# Altium schematic symbol library WE-XHMI.SchLib: 178 symbols (part 2 of 4)
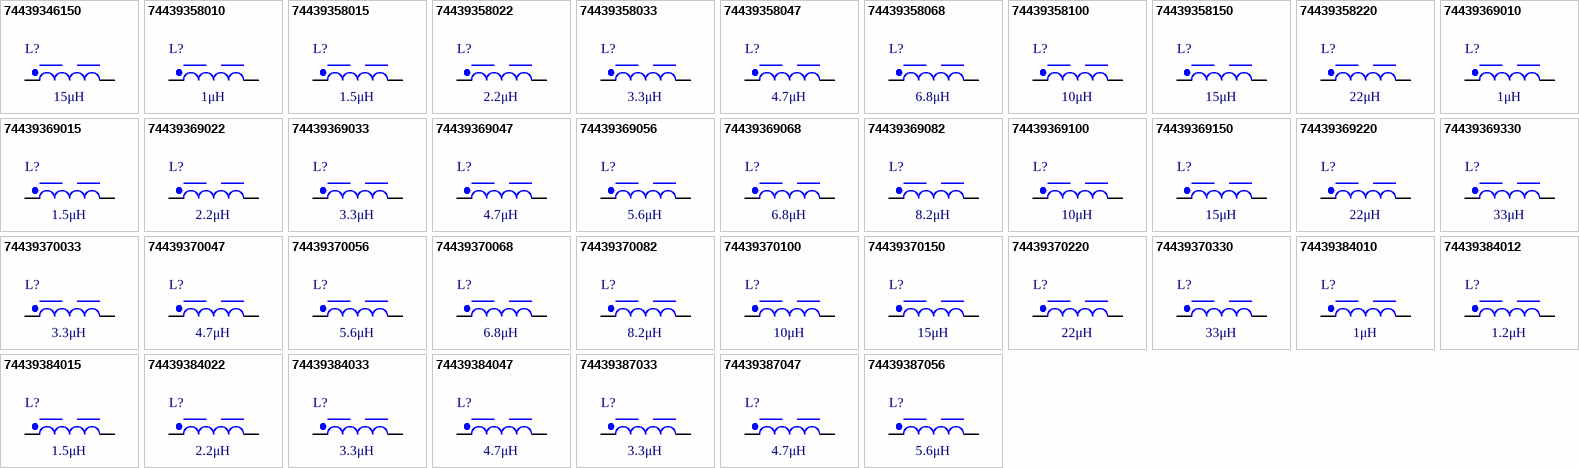
[diagram p5: symbols 74439346150 to 74439387056]

## 74439369068
designator L?, comment 6.8μH
WE-XHMI SMT Power Inductor, size 1090, 6.8μH, 16.3A, 7.88mΩ; Manufacturer Part Number: 74439369068; Manufacturer: Wurth Elektronik; Case/Size Code: 1090; DC Resistance: 7.16mΩ; Saturation Current @ 30%: 23.25A; Self Resonant Frequency: 16MHz; Category: Power Inductors; Match Code: WE-XHMI; ComponentLink1Description: Website Link; ComponentLink1URL: https://www.we-online.com/redexpert/article/74439369068?ad; ComponentLink2Description: Datasheet Link; ComponentLink2URL: https://www.we-online.com/redexpert/spec/74439369068?ad; Mount: Surface Mount; Min Operating Temperature: -40°C; Max Operating Temperature: 125°C; Packaging: Tape and Reel; Length: 11.6mm; Width: 10.5mm; Height: 8.8mm; DC Resistance Max: 7.88mΩ; Inductance: 6.8μH; Performance Rated Current: 16.3A
footprint WE-XHMI_1090
simulation model 1090_74439369068_6.8u
pins: 1, 2

## 74439369082
designator L?, comment 8.2μH
WE-XHMI SMT Power Inductor, size 1090, 8.2μH, 13.4A, 11mΩ; Manufacturer Part Number: 74439369082; Manufacturer: Wurth Elektronik; Case/Size Code: 1090; DC Resistance: 10mΩ; Saturation Current @ 30%: 20.45A; Self Resonant Frequency: 16MHz; Category: Power Inductors; Match Code: WE-XHMI; ComponentLink1Description: Website Link; ComponentLink1URL: https://www.we-online.com/redexpert/article/74439369082?ad; ComponentLink2Description: Datasheet Link; ComponentLink2URL: https://www.we-online.com/redexpert/spec/74439369082?ad; Mount: Surface Mount; Min Operating Temperature: -40°C; Max Operating Temperature: 125°C; Packaging: Tape and Reel; Length: 11.6mm; Width: 10.5mm; Height: 8.8mm; DC Resistance Max: 11mΩ; Inductance: 8.2μH; Performance Rated Current: 13.4A
footprint WE-XHMI_1090
simulation model 1090_74439369082_8.2u
pins: 1, 2

## 74439369100
designator L?, comment 10μH
WE-XHMI SMT Power Inductor, size 1090, 10μH, 12.7A, 12.1mΩ; Manufacturer Part Number: 74439369100; Manufacturer: Wurth Elektronik; Case/Size Code: 1090; DC Resistance: 11mΩ; Saturation Current @ 30%: 20.3A; Self Resonant Frequency: 14MHz; Category: Power Inductors; Match Code: WE-XHMI; ComponentLink1Description: Website Link; ComponentLink1URL: https://www.we-online.com/redexpert/article/74439369100?ad; ComponentLink2Description: Datasheet Link; ComponentLink2URL: https://www.we-online.com/redexpert/spec/74439369100?ad; Mount: Surface Mount; Min Operating Temperature: -40°C; Max Operating Temperature: 125°C; Packaging: Tape and Reel; Length: 11.6mm; Width: 10.5mm; Height: 8.8mm; DC Resistance Max: 12.1mΩ; Inductance: 10μH; Performance Rated Current: 12.7A
footprint WE-XHMI_1090
simulation model 1090_74439369100_10u
pins: 1, 2

## 74439369150
designator L?, comment 15μH
WE-XHMI SMT Power Inductor, size 1090, 15μH, 10.75A, 16.28mΩ; Manufacturer Part Number: 74439369150; Manufacturer: Wurth Elektronik; Case/Size Code: 1090; DC Resistance: 14.8mΩ; Saturation Current @ 30%: 16.95A; Self Resonant Frequency: 11MHz; Category: Power Inductors; Match Code: WE-XHMI; ComponentLink1Description: Website Link; ComponentLink1URL: https://www.we-online.com/redexpert/article/74439369150?ad; ComponentLink2Description: Datasheet Link; ComponentLink2URL: https://www.we-online.com/redexpert/spec/74439369150?ad; Mount: Surface Mount; Min Operating Temperature: -40°C; Max Operating Temperature: 125°C; Packaging: Tape and Reel; Length: 11.6mm; Width: 10.5mm; Height: 8.8mm; DC Resistance Max: 16.28mΩ; Inductance: 15μH; Performance Rated Current: 10.75A
footprint WE-XHMI_1090
simulation model 1090_74439369150_15u
pins: 1, 2

## 74439369220
designator L?, comment 22μH
WE-XHMI SMT Power Inductor, size 1090, 22μH, 9.7A, 23.65mΩ; Manufacturer Part Number: 74439369220; Manufacturer: Wurth Elektronik; Case/Size Code: 1090; DC Resistance: 21mΩ; Saturation Current @ 30%: 13.8A; Self Resonant Frequency: 8MHz; Category: Power Inductors; Match Code: WE-XHMI; ComponentLink1Description: Website Link; ComponentLink1URL: https://www.we-online.com/redexpert/article/74439369220?ad; ComponentLink2Description: Datasheet Link; ComponentLink2URL: https://www.we-online.com/redexpert/spec/74439369220?ad; Mount: Surface Mount; Min Operating Temperature: -40°C; Max Operating Temperature: 125°C; Packaging: Tape and Reel; Length: 11.6mm; Width: 10.5mm; Height: 8.8mm; DC Resistance Max: 23.65mΩ; Inductance: 22μH; Performance Rated Current: 9.7A
footprint WE-XHMI_1090
simulation model 1090_74439369220_22u
pins: 1, 2

## 74439369330
designator L?, comment 33μH
WE-XHMI SMT Power Inductor, size 1090, 33μH, 7.1A, 39.6mΩ; Manufacturer Part Number: 74439369330; Manufacturer: Wurth Elektronik; Case/Size Code: 1090; DC Resistance: 36.2mΩ; Saturation Current @ 30%: 11.7A; Self Resonant Frequency: 7MHz; Category: Power Inductors; Match Code: WE-XHMI; ComponentLink1Description: Website Link; ComponentLink1URL: https://www.we-online.com/redexpert/article/74439369330?ad; ComponentLink2Description: Datasheet Link; ComponentLink2URL: https://www.we-online.com/redexpert/spec/74439369330?ad; Mount: Surface Mount; Min Operating Temperature: -40°C; Max Operating Temperature: 125°C; Packaging: Tape and Reel; Length: 11.6mm; Width: 10.5mm; Height: 8.8mm; DC Resistance Max: 39.6mΩ; Inductance: 33μH; Performance Rated Current: 7.1A
footprint WE-XHMI_1090
simulation model 1090_74439369330_33u
pins: 1, 2

## 74439370033
designator L?, comment 3.3μH
WE-XHMI SMT Power Inductor, size 1510, 3.3μH, 33.8A, 2.97mΩ; Manufacturer Part Number: 74439370033; Manufacturer: Wurth Elektronik; Case/Size Code: 1510; DC Resistance: 2.6mΩ; Saturation Current @ 30%: 43A; Self Resonant Frequency: 16MHz; Category: Power Inductors; Match Code: WE-XHMI; ComponentLink1Description: Website Link; ComponentLink1URL: https://www.we-online.com/redexpert/article/74439370033?ad; ComponentLink2Description: Datasheet Link; ComponentLink2URL: https://www.we-online.com/redexpert/spec/74439370033?ad; Mount: Surface Mount; Min Operating Temperature: -40°C; Max Operating Temperature: 125°C; Packaging: Tape and Reel; Length: 16.4mm; Width: 15.4mm; Height: 10mm; DC Resistance Max: 2.97mΩ; Inductance: 3.3μH; Performance Rated Current: 33.8A
footprint WE-XHMI_1510
simulation model 1510_74439370033_3.3u
pins: 1, 2

## 74439370047
designator L?, comment 4.7μH
WE-XHMI SMT Power Inductor, size 1510, 4.7μH, 29.7A, 3.41mΩ; Manufacturer Part Number: 74439370047; Manufacturer: Wurth Elektronik; Case/Size Code: 1510; DC Resistance: 3.1mΩ; Saturation Current @ 30%: 47.4A; Self Resonant Frequency: 16MHz; Category: Power Inductors; Match Code: WE-XHMI; ComponentLink1Description: Website Link; ComponentLink1URL: https://www.we-online.com/redexpert/article/74439370047?ad; ComponentLink2Description: Datasheet Link; ComponentLink2URL: https://www.we-online.com/redexpert/spec/74439370047?ad; Mount: Surface Mount; Min Operating Temperature: -40°C; Max Operating Temperature: 125°C; Packaging: Tape and Reel; Length: 16.4mm; Width: 15.4mm; Height: 10mm; DC Resistance Max: 3.41mΩ; Inductance: 4.7μH; Performance Rated Current: 29.7A
footprint WE-XHMI_1510
simulation model 1510_74439370047_4.7u
pins: 1, 2

## 74439370056
designator L?, comment 5.6μH
WE-XHMI SMT Power Inductor, size 1510, 5.6μH, 29.6A, 3.96mΩ; Manufacturer Part Number: 74439370056; Manufacturer: Wurth Elektronik; Case/Size Code: 1510; DC Resistance: 3.5mΩ; Saturation Current @ 30%: 40.1A; Self Resonant Frequency: 14MHz; Category: Power Inductors; Match Code: WE-XHMI; ComponentLink1Description: Website Link; ComponentLink1URL: https://www.we-online.com/redexpert/article/74439370056?ad; ComponentLink2Description: Datasheet Link; ComponentLink2URL: https://www.we-online.com/redexpert/spec/74439370056?ad; Mount: Surface Mount; Min Operating Temperature: -40°C; Max Operating Temperature: 125°C; Packaging: Tape and Reel; Length: 16.4mm; Width: 15.4mm; Height: 10mm; DC Resistance Max: 3.96mΩ; Inductance: 5.6μH; Performance Rated Current: 29.6A
footprint WE-XHMI_1510
simulation model 1510_74439370056_5.6u
pins: 1, 2

## 74439370068
designator L?, comment 6.8μH
WE-XHMI SMT Power Inductor, size 1510, 6.8μH, 25.3A, 4.51mΩ; Manufacturer Part Number: 74439370068; Manufacturer: Wurth Elektronik; Case/Size Code: 1510; DC Resistance: 4.1mΩ; Saturation Current @ 30%: 40.05A; Self Resonant Frequency: 14MHz; Category: Power Inductors; Match Code: WE-XHMI; ComponentLink1Description: Website Link; ComponentLink1URL: https://www.we-online.com/redexpert/article/74439370068?ad; ComponentLink2Description: Datasheet Link; ComponentLink2URL: https://www.we-online.com/redexpert/spec/74439370068?ad; Mount: Surface Mount; Min Operating Temperature: -40°C; Max Operating Temperature: 125°C; Packaging: Tape and Reel; Length: 16.4mm; Width: 15.4mm; Height: 10mm; DC Resistance Max: 4.51mΩ; Inductance: 6.8μH; Performance Rated Current: 25.3A
footprint WE-XHMI_1510
simulation model 1510_74439370068_6.8u
pins: 1, 2

## 74439370082
designator L?, comment 8.2μH
WE-XHMI SMT Power Inductor, size 1510, 8.2μH, 21.35A, 6.05mΩ; Manufacturer Part Number: 74439370082; Manufacturer: Wurth Elektronik; Case/Size Code: 1510; DC Resistance: 5.5mΩ; Saturation Current @ 30%: 36.4A; Self Resonant Frequency: 11MHz; Category: Power Inductors; Match Code: WE-XHMI; ComponentLink1Description: Website Link; ComponentLink1URL: https://www.we-online.com/redexpert/article/74439370082?ad; ComponentLink2Description: Datasheet Link; ComponentLink2URL: https://www.we-online.com/redexpert/spec/74439370082?ad; Mount: Surface Mount; Min Operating Temperature: -40°C; Max Operating Temperature: 125°C; Packaging: Tape and Reel; Length: 16.4mm; Width: 15.4mm; Height: 10mm; DC Resistance Max: 6.05mΩ; Inductance: 8.2μH; Performance Rated Current: 21.35A
footprint WE-XHMI_1510
simulation model 1510_74439370082_8.2u
pins: 1, 2

## 74439370100
designator L?, comment 10μH
WE-XHMI SMT Power Inductor, size 1510, 10μH, 19.6A, 7.04mΩ; Manufacturer Part Number: 74439370100; Manufacturer: Wurth Elektronik; Case/Size Code: 1510; DC Resistance: 6.4mΩ; Saturation Current @ 30%: 31.2A; Self Resonant Frequency: 9MHz; Category: Power Inductors; Match Code: WE-XHMI; ComponentLink1Description: Website Link; ComponentLink1URL: https://www.we-online.com/redexpert/article/74439370100?ad; ComponentLink2Description: Datasheet Link; ComponentLink2URL: https://www.we-online.com/redexpert/spec/74439370100?ad; Mount: Surface Mount; Min Operating Temperature: -40°C; Max Operating Temperature: 125°C; Packaging: Tape and Reel; Length: 16.4mm; Width: 15.4mm; Height: 10mm; DC Resistance Max: 7.04mΩ; Inductance: 10μH; Performance Rated Current: 19.6A
footprint WE-XHMI_1510
simulation model 1510_74439370100_10u
pins: 1, 2

## 74439370150
designator L?, comment 15μH
WE-XHMI SMT Power Inductor, size 1510, 15μH, 14.7A, 11.55mΩ; Manufacturer Part Number: 74439370150; Manufacturer: Wurth Elektronik; Case/Size Code: 1510; DC Resistance: 10.5mΩ; Saturation Current @ 30%: 26.1A; Self Resonant Frequency: 8MHz; Category: Power Inductors; Match Code: WE-XHMI; ComponentLink1Description: Website Link; ComponentLink1URL: https://www.we-online.com/redexpert/article/74439370150?ad; ComponentLink2Description: Datasheet Link; ComponentLink2URL: https://www.we-online.com/redexpert/spec/74439370150?ad; Mount: Surface Mount; Min Operating Temperature: -40°C; Max Operating Temperature: 125°C; Packaging: Tape and Reel; Length: 16.4mm; Width: 15.4mm; Height: 10mm; DC Resistance Max: 11.55mΩ; Inductance: 15μH; Performance Rated Current: 14.7A
footprint WE-XHMI_1510
simulation model 1510_74439370150_15u
pins: 1, 2

## 74439370220
designator L?, comment 22μH
WE-XHMI SMT Power Inductor, size 1510, 22μH, 13.35A, 13.75mΩ; Manufacturer Part Number: 74439370220; Manufacturer: Wurth Elektronik; Case/Size Code: 1510; DC Resistance: 12.5mΩ; Saturation Current @ 30%: 22.35A; Self Resonant Frequency: 7MHz; Category: Power Inductors; Match Code: WE-XHMI; ComponentLink1Description: Website Link; ComponentLink1URL: https://www.we-online.com/redexpert/article/74439370220?ad; ComponentLink2Description: Datasheet Link; ComponentLink2URL: https://www.we-online.com/redexpert/spec/74439370220?ad; Mount: Surface Mount; Min Operating Temperature: -40°C; Max Operating Temperature: 125°C; Packaging: Tape and Reel; Length: 16.4mm; Width: 15.4mm; Height: 10mm; DC Resistance Max: 13.75mΩ; Inductance: 22μH; Performance Rated Current: 13.35A
footprint WE-XHMI_1510
simulation model 1510_74439370220_22u
pins: 1, 2

## 74439370330
designator L?, comment 33μH
WE-XHMI SMT Power Inductor, size 1510, 33μH, 10.8A, 19.8mΩ; Manufacturer Part Number: 74439370330; Manufacturer: Wurth Elektronik; Case/Size Code: 1510; DC Resistance: 18mΩ; Saturation Current @ 30%: 18.15A; Self Resonant Frequency: 5MHz; Category: Power Inductors; Match Code: WE-XHMI; ComponentLink1Description: Website Link; ComponentLink1URL: https://www.we-online.com/redexpert/article/74439370330?ad; ComponentLink2Description: Datasheet Link; ComponentLink2URL: https://www.we-online.com/redexpert/spec/74439370330?ad; Mount: Surface Mount; Min Operating Temperature: -40°C; Max Operating Temperature: 125°C; Packaging: Tape and Reel; Length: 16.4mm; Width: 15.4mm; Height: 10mm; DC Resistance Max: 19.8mΩ; Inductance: 33μH; Performance Rated Current: 10.8A
footprint WE-XHMI_1510
simulation model 1510_74439370330_33u
pins: 1, 2

## 74439384010
designator L?, comment 1μH
WE-XHMI SMT Power Inductor, size 7030, 1μH, 23.7A, 5.16mΩ; Manufacturer Part Number: 74439384010; Manufacturer: Wurth Elektronik; Case/Size Code: 7030; DC Resistance: 3.9mΩ; Saturation Current @ 30%: 25A; Self Resonant Frequency: 45MHz; Category: Power Inductors; Match Code: WE-XHMI; ComponentLink1Description: Website Link; ComponentLink1URL: https://www.we-online.com/redexpert/article/74439384010?ad; ComponentLink2Description: Datasheet Link; ComponentLink2URL: https://www.we-online.com/redexpert/spec/74439384010?ad; Mount: Surface Mount; Min Operating Temperature: -40°C; Max Operating Temperature: 125°C; Packaging: Tape and Reel; Length: 7.9mm; Width: 7.6mm; Height: 3mm; DC Resistance Max: 5.16mΩ; Inductance: 1μH; Performance Rated Current: 23.7A
footprint WE-XHMI_7030
simulation model 7030_74439384010_1u
pins: 1, 2

## 74439384012
designator L?, comment 1.2μH
WE-XHMI SMT Power Inductor, size 7030, 1.2μH, 23.6A, 5.4mΩ; Manufacturer Part Number: 74439384012; Manufacturer: Wurth Elektronik; Case/Size Code: 7030; DC Resistance: 4.2mΩ; Saturation Current @ 30%: 21.9A; Self Resonant Frequency: 38MHz; Category: Power Inductors; Match Code: WE-XHMI; ComponentLink1Description: Website Link; ComponentLink1URL: https://www.we-online.com/redexpert/article/74439384012?ad; ComponentLink2Description: Datasheet Link; ComponentLink2URL: https://www.we-online.com/redexpert/spec/74439384012?ad; Mount: Surface Mount; Min Operating Temperature: -40°C; Max Operating Temperature: 125°C; Packaging: Tape and Reel; Length: 7.9mm; Width: 7.6mm; Height: 3mm; DC Resistance Max: 5.4mΩ; Inductance: 1.2μH; Performance Rated Current: 23.6A
footprint WE-XHMI_7030
simulation model 7030_74439384012_1.2u
pins: 1, 2

## 74439384015
designator L?, comment 1.5μH
WE-XHMI SMT Power Inductor, size 7030, 1.5μH, 20.1A, 6.6mΩ; Manufacturer Part Number: 74439384015; Manufacturer: Wurth Elektronik; Case/Size Code: 7030; DC Resistance: 5.1mΩ; Saturation Current @ 30%: 18.8A; Self Resonant Frequency: 36MHz; Category: Power Inductors; Match Code: WE-XHMI; ComponentLink1Description: Website Link; ComponentLink1URL: https://www.we-online.com/redexpert/article/74439384015?ad; ComponentLink2Description: Datasheet Link; ComponentLink2URL: https://www.we-online.com/redexpert/spec/74439384015?ad; Mount: Surface Mount; Min Operating Temperature: -40°C; Max Operating Temperature: 125°C; Packaging: Tape and Reel; Length: 7.9mm; Width: 7.6mm; Height: 3mm; DC Resistance Max: 6.6mΩ; Inductance: 1.5μH; Performance Rated Current: 20.1A
footprint WE-XHMI_7030
simulation model 7030_74439384015_1.5u
pins: 1, 2

## 74439384022
designator L?, comment 2.2μH
WE-XHMI SMT Power Inductor, size 7030, 2.2μH, 16.7A, 10.56mΩ; Manufacturer Part Number: 74439384022; Manufacturer: Wurth Elektronik; Case/Size Code: 7030; DC Resistance: 7.9mΩ; Saturation Current @ 30%: 13.8A; Self Resonant Frequency: 27MHz; Category: Power Inductors; Match Code: WE-XHMI; ComponentLink1Description: Website Link; ComponentLink1URL: https://www.we-online.com/redexpert/article/74439384022?ad; ComponentLink2Description: Datasheet Link; ComponentLink2URL: https://www.we-online.com/redexpert/spec/74439384022?ad; Mount: Surface Mount; Min Operating Temperature: -40°C; Max Operating Temperature: 125°C; Packaging: Tape and Reel; Length: 7.9mm; Width: 7.6mm; Height: 3mm; DC Resistance Max: 10.56mΩ; Inductance: 2.2μH; Performance Rated Current: 16.7A
footprint WE-XHMI_7030
simulation model 7030_74439384022_2.2u
pins: 1, 2

## 74439384033
designator L?, comment 3.3μH
WE-XHMI SMT Power Inductor, size 7030, 3.3μH, 11.4A, 19.08mΩ; Manufacturer Part Number: 74439384033; Manufacturer: Wurth Elektronik; Case/Size Code: 7030; DC Resistance: 14.4mΩ; Saturation Current @ 30%: 13.6A; Self Resonant Frequency: 25MHz; Category: Power Inductors; Match Code: WE-XHMI; ComponentLink1Description: Website Link; ComponentLink1URL: https://www.we-online.com/redexpert/article/74439384033?ad; ComponentLink2Description: Datasheet Link; ComponentLink2URL: https://www.we-online.com/redexpert/spec/74439384033?ad; Mount: Surface Mount; Min Operating Temperature: -40°C; Max Operating Temperature: 125°C; Packaging: Tape and Reel; Length: 7.9mm; Width: 7.6mm; Height: 3mm; DC Resistance Max: 19.08mΩ; Inductance: 3.3μH; Performance Rated Current: 11.4A
footprint WE-XHMI_7030
simulation model 7030_74439384033_3.3u
pins: 1, 2

## 74439384047
designator L?, comment 4.7μH
WE-XHMI SMT Power Inductor, size 7030, 4.7μH, 9.5A, 24.96mΩ; Manufacturer Part Number: 74439384047; Manufacturer: Wurth Elektronik; Case/Size Code: 7030; DC Resistance: 19.8mΩ; Saturation Current @ 30%: 11A; Self Resonant Frequency: 18MHz; Category: Power Inductors; Match Code: WE-XHMI; ComponentLink1Description: Website Link; ComponentLink1URL: https://www.we-online.com/redexpert/article/74439384047?ad; ComponentLink2Description: Datasheet Link; ComponentLink2URL: https://www.we-online.com/redexpert/spec/74439384047?ad; Mount: Surface Mount; Min Operating Temperature: -40°C; Max Operating Temperature: 125°C; Packaging: Tape and Reel; Length: 7.9mm; Width: 7.6mm; Height: 3mm; DC Resistance Max: 24.96mΩ; Inductance: 4.7μH; Performance Rated Current: 9.5A
footprint WE-XHMI_7030
simulation model 7030_74439384047_4.7u
pins: 1, 2

## 74439387033
designator L?, comment 3.3μH
WE-XHMI SMT Power Inductor, size 7070, 3.3μH, 18.2A, 8.76mΩ; Manufacturer Part Number: 74439387033; Manufacturer: Wurth Elektronik; Case/Size Code: 7070; DC Resistance: 6.4mΩ; Saturation Current @ 30%: 18.6A; Self Resonant Frequency: 23MHz; Category: Power Inductors; Match Code: WE-XHMI; ComponentLink1Description: Website Link; ComponentLink1URL: https://www.we-online.com/redexpert/article/74439387033?ad; ComponentLink2Description: Datasheet Link; ComponentLink2URL: https://www.we-online.com/redexpert/spec/74439387033?ad; Mount: Surface Mount; Min Operating Temperature: -40°C; Max Operating Temperature: 125°C; Packaging: Tape and Reel; Length: 7.9mm; Width: 7.6mm; Height: 7.1mm; DC Resistance Max: 8.76mΩ; Inductance: 3.3μH; Performance Rated Current: 18.2A
footprint WE-XHMI_7070
simulation model 7070_74439387033_3.3u
pins: 1, 2

## 74439387047
designator L?, comment 4.7μH
WE-XHMI SMT Power Inductor, size 7070, 4.7μH, 15A, 11.52mΩ; Manufacturer Part Number: 74439387047; Manufacturer: Wurth Elektronik; Case/Size Code: 7070; DC Resistance: 9.2mΩ; Saturation Current @ 30%: 16A; Self Resonant Frequency: 20MHz; Category: Power Inductors; Match Code: WE-XHMI; ComponentLink1Description: Website Link; ComponentLink1URL: https://www.we-online.com/redexpert/article/74439387047?ad; ComponentLink2Description: Datasheet Link; ComponentLink2URL: https://www.we-online.com/redexpert/spec/74439387047?ad; Mount: Surface Mount; Min Operating Temperature: -40°C; Max Operating Temperature: 125°C; Packaging: Tape and Reel; Length: 7.9mm; Width: 7.6mm; Height: 7.1mm; DC Resistance Max: 11.52mΩ; Inductance: 4.7μH; Performance Rated Current: 15A
footprint WE-XHMI_7070
simulation model 7070_74439387047_4.7u
pins: 1, 2

## 74439387056
designator L?, comment 5.6μH
WE-XHMI SMT Power Inductor, size 7070, 5.6μH, 14.8A, 13.32mΩ; Manufacturer Part Number: 74439387056; Manufacturer: Wurth Elektronik; Case/Size Code: 7070; DC Resistance: 12.4mΩ; Saturation Current @ 30%: 13.9A; Self Resonant Frequency: 15MHz; Category: Power Inductors; Match Code: WE-XHMI; ComponentLink1Description: Website Link; ComponentLink1URL: https://www.we-online.com/redexpert/article/74439387056?ad; ComponentLink2Description: Datasheet Link; ComponentLink2URL: https://www.we-online.com/redexpert/spec/74439387056?ad; Mount: Surface Mount; Min Operating Temperature: -40°C; Max Operating Temperature: 125°C; Packaging: Tape and Reel; Length: 7.9mm; Width: 7.6mm; Height: 7.1mm; DC Resistance Max: 13.32mΩ; Inductance: 5.6μH; Performance Rated Current: 14.8A
footprint WE-XHMI_7070
simulation model 7070_74439387056_5.6u
pins: 1, 2

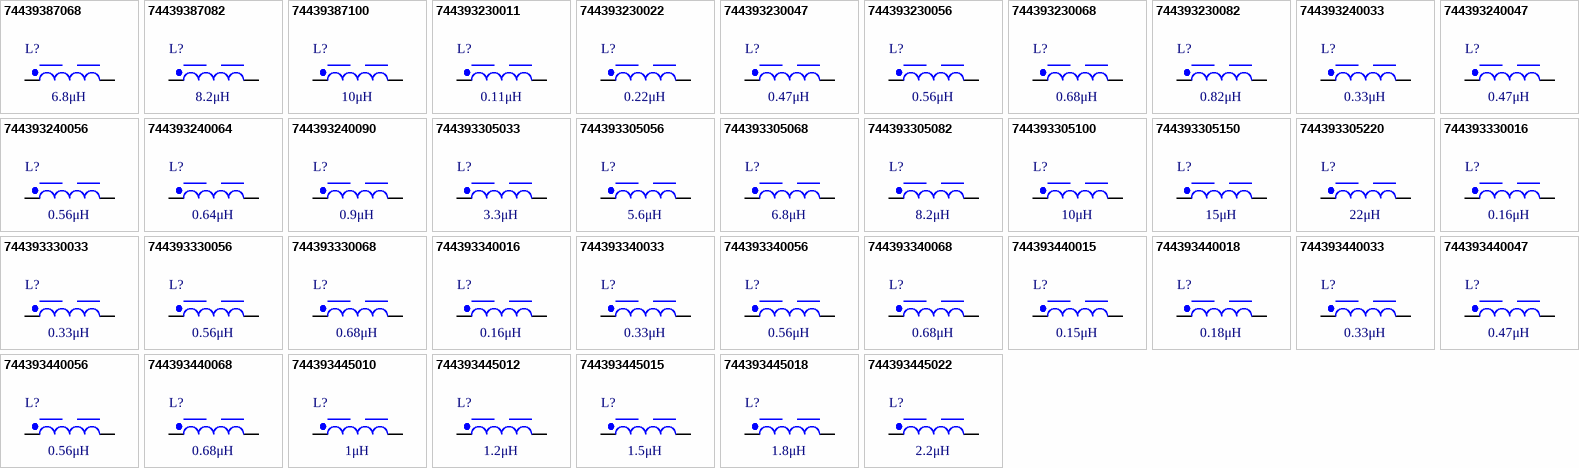
[diagram p2: symbols 74439387068 to 744393445022]

## 74439387068
designator L?, comment 6.8μH
WE-XHMI SMT Power Inductor, size 7070, 6.8μH, 12.5A, 16.8mΩ; Manufacturer Part Number: 74439387068; Manufacturer: Wurth Elektronik; Case/Size Code: 7070; DC Resistance: 12.4mΩ; Saturation Current @ 30%: 13.7A; Self Resonant Frequency: 15MHz; Category: Power Inductors; Match Code: WE-XHMI; ComponentLink1Description: Website Link; ComponentLink1URL: https://www.we-online.com/redexpert/article/74439387068?ad; ComponentLink2Description: Datasheet Link; ComponentLink2URL: https://www.we-online.com/redexpert/spec/74439387068?ad; Mount: Surface Mount; Min Operating Temperature: -40°C; Max Operating Temperature: 125°C; Packaging: Tape and Reel; Length: 7.9mm; Width: 7.6mm; Height: 7.1mm; DC Resistance Max: 16.8mΩ; Inductance: 6.8μH; Performance Rated Current: 12.5A
footprint WE-XHMI_7070
simulation model 7070_74439387068_6.8u
pins: 1, 2

## 74439387082
designator L?, comment 8.2μH
WE-XHMI SMT Power Inductor, size 7070, 8.2μH, 11.2A, 19.5mΩ; Manufacturer Part Number: 74439387082; Manufacturer: Wurth Elektronik; Case/Size Code: 7070; DC Resistance: 14.5mΩ; Saturation Current @ 30%: 12.7A; Self Resonant Frequency: 14MHz; Category: Power Inductors; Match Code: WE-XHMI; ComponentLink1Description: Website Link; ComponentLink1URL: https://www.we-online.com/redexpert/article/74439387082?ad; ComponentLink2Description: Datasheet Link; ComponentLink2URL: https://www.we-online.com/redexpert/spec/74439387082?ad; Mount: Surface Mount; Min Operating Temperature: -40°C; Max Operating Temperature: 125°C; Packaging: Tape and Reel; Length: 7.9mm; Width: 7.6mm; Height: 7.1mm; DC Resistance Max: 19.5mΩ; Inductance: 8.2μH; Performance Rated Current: 11.2A
footprint WE-XHMI_7070
simulation model 7070_74439387082_8.2u
pins: 1, 2

## 74439387100
designator L?, comment 10μH
WE-XHMI SMT Power Inductor, size 7070, 10μH, 9.6A, 22.92mΩ; Manufacturer Part Number: 74439387100; Manufacturer: Wurth Elektronik; Case/Size Code: 7070; DC Resistance: 19mΩ; Saturation Current @ 30%: 12.6A; Self Resonant Frequency: 13MHz; Category: Power Inductors; Match Code: WE-XHMI; ComponentLink1Description: Website Link; ComponentLink1URL: https://www.we-online.com/redexpert/article/74439387100?ad; ComponentLink2Description: Datasheet Link; ComponentLink2URL: https://www.we-online.com/redexpert/spec/74439387100?ad; Mount: Surface Mount; Min Operating Temperature: -40°C; Max Operating Temperature: 125°C; Packaging: Tape and Reel; Length: 7.9mm; Width: 7.6mm; Height: 7.1mm; DC Resistance Max: 22.92mΩ; Inductance: 10μH; Performance Rated Current: 9.6A
footprint WE-XHMI_7070
simulation model 7070_74439387100_10u
pins: 1, 2

## 744393230011
designator L?, comment 0.11μH
WE-XHMI SMT Power Inductor, size 4020, 0.11μH, 23.7A, 2.44mΩ; Manufacturer Part Number: 744393230011; Manufacturer: Wurth Elektronik; Case/Size Code: 4020; DC Resistance: 2mΩ; Saturation Current @ 30%: 41.5A; Self Resonant Frequency: 295MHz; Category: Power Inductors; Match Code: WE-XHMI; ComponentLink1Description: Website Link; ComponentLink1URL: https://www.we-online.com/redexpert/article/744393230011?ad; ComponentLink2Description: Datasheet Link; ComponentLink2URL: https://www.we-online.com/redexpert/spec/744393230011?ad; Mount: Surface Mount; Min Operating Temperature: -40°C; Max Operating Temperature: 125°C; Packaging: Tape and Reel; Length: 4.3mm; Width: 4.3mm; Height: 2mm; DC Resistance Max: 2.44mΩ; Inductance: 0.11μH; Performance Rated Current: 23.7A
footprint WE-XHMI_4020
simulation model 4020_744393230011_0.11u
pins: 1, 2

## 744393230022
designator L?, comment 0.22μH
WE-XHMI SMT Power Inductor, size 4020, 0.22μH, 20A, 3.78mΩ; Manufacturer Part Number: 744393230022; Manufacturer: Wurth Elektronik; Case/Size Code: 4020; DC Resistance: 3.05mΩ; Saturation Current @ 30%: 24.2A; Self Resonant Frequency: 160MHz; Category: Power Inductors; Match Code: WE-XHMI; ComponentLink1Description: Website Link; ComponentLink1URL: https://www.we-online.com/redexpert/article/744393230022?ad; ComponentLink2Description: Datasheet Link; ComponentLink2URL: https://www.we-online.com/redexpert/spec/744393230022?ad; Mount: Surface Mount; Min Operating Temperature: -40°C; Max Operating Temperature: 125°C; Packaging: Tape and Reel; Length: 4.3mm; Width: 4.3mm; Height: 2mm; DC Resistance Max: 3.78mΩ; Inductance: 0.22μH; Performance Rated Current: 20A
footprint WE-XHMI_4020
simulation model 4020_744393230022_0.22u
pins: 1, 2

## 744393230047
designator L?, comment 0.47μH
WE-XHMI SMT Power Inductor, size 4020, 0.47μH, 14.5A, 6.69mΩ; Manufacturer Part Number: 744393230047; Manufacturer: Wurth Elektronik; Case/Size Code: 4020; DC Resistance: 5.25mΩ; Saturation Current @ 30%: 12.8A; Self Resonant Frequency: 95MHz; Category: Power Inductors; Match Code: WE-XHMI; ComponentLink1Description: Website Link; ComponentLink1URL: https://www.we-online.com/redexpert/article/744393230047?ad; ComponentLink2Description: Datasheet Link; ComponentLink2URL: https://www.we-online.com/redexpert/spec/744393230047?ad; Mount: Surface Mount; Min Operating Temperature: -40°C; Max Operating Temperature: 125°C; Packaging: Tape and Reel; Length: 4.3mm; Width: 4.3mm; Height: 2mm; DC Resistance Max: 6.69mΩ; Inductance: 0.47μH; Performance Rated Current: 14.5A
footprint WE-XHMI_4020
simulation model 4020_744393230047_0.47u
pins: 1, 2

## 744393230056
designator L?, comment 0.56μH
WE-XHMI SMT Power Inductor, size 4020, 0.56μH, 12.7A, 8mΩ; Manufacturer Part Number: 744393230056; Manufacturer: Wurth Elektronik; Case/Size Code: 4020; DC Resistance: 6.3mΩ; Saturation Current @ 30%: 12A; Self Resonant Frequency: 85MHz; Category: Power Inductors; Match Code: WE-XHMI; ComponentLink1Description: Website Link; ComponentLink1URL: https://www.we-online.com/redexpert/article/744393230056?ad; ComponentLink2Description: Datasheet Link; ComponentLink2URL: https://www.we-online.com/redexpert/spec/744393230056?ad; Mount: Surface Mount; Min Operating Temperature: -40°C; Max Operating Temperature: 125°C; Packaging: Tape and Reel; Length: 4.3mm; Width: 4.3mm; Height: 2mm; DC Resistance Max: 8mΩ; Inductance: 0.56μH; Performance Rated Current: 12.7A
footprint WE-XHMI_4020
simulation model 4020_744393230056_0.56u
pins: 1, 2

## 744393230068
designator L?, comment 0.68μH
WE-XHMI SMT Power Inductor, size 4020, 0.68μH, 12.6A, 9.63mΩ; Manufacturer Part Number: 744393230068; Manufacturer: Wurth Elektronik; Case/Size Code: 4020; DC Resistance: 6.6mΩ; Saturation Current @ 30%: 11.8A; Self Resonant Frequency: 80MHz; Category: Power Inductors; Match Code: WE-XHMI; ComponentLink1Description: Website Link; ComponentLink1URL: https://www.we-online.com/redexpert/article/744393230068?ad; ComponentLink2Description: Datasheet Link; ComponentLink2URL: https://www.we-online.com/redexpert/spec/744393230068?ad; Mount: Surface Mount; Min Operating Temperature: -40°C; Max Operating Temperature: 125°C; Packaging: Tape and Reel; Length: 4.3mm; Width: 4.3mm; Height: 2mm; DC Resistance Max: 9.63mΩ; Inductance: 0.68μH; Performance Rated Current: 12.6A
footprint WE-XHMI_4020
simulation model 4020_744393230068_0.68u
pins: 1, 2

## 744393230082
designator L?, comment 0.82μH
WE-XHMI SMT Power Inductor, size 4020, 0.82μH, 10.8A, 11mΩ; Manufacturer Part Number: 744393230082; Manufacturer: Wurth Elektronik; Case/Size Code: 4020; DC Resistance: 9.3mΩ; Saturation Current @ 30%: 11.6A; Self Resonant Frequency: 70MHz; Category: Power Inductors; Match Code: WE-XHMI; ComponentLink1Description: Website Link; ComponentLink1URL: https://www.we-online.com/redexpert/article/744393230082?ad; ComponentLink2Description: Datasheet Link; ComponentLink2URL: https://www.we-online.com/redexpert/spec/744393230082?ad; Mount: Surface Mount; Min Operating Temperature: -40°C; Max Operating Temperature: 125°C; Packaging: Tape and Reel; Length: 4.3mm; Width: 4.3mm; Height: 2mm; DC Resistance Max: 11mΩ; Inductance: 0.82μH; Performance Rated Current: 10.8A
footprint WE-XHMI_4020
simulation model 4020_744393230082_0.82u
pins: 1, 2

## 744393240033
designator L?, comment 0.33μH
WE-XHMI SMT Power Inductor, size 4030, 0.33μH, 19.4A, 4mΩ; Manufacturer Part Number: 744393240033; Manufacturer: Wurth Elektronik; Case/Size Code: 4030; DC Resistance: 3.1mΩ; Saturation Current @ 30%: 20A; Self Resonant Frequency: 110MHz; Category: Power Inductors; Match Code: WE-XHMI; ComponentLink1Description: Website Link; ComponentLink1URL: https://www.we-online.com/redexpert/article/744393240033?ad; ComponentLink2Description: Datasheet Link; ComponentLink2URL: https://www.we-online.com/redexpert/spec/744393240033?ad; Mount: Surface Mount; Min Operating Temperature: -40°C; Max Operating Temperature: 125°C; Packaging: Tape and Reel; Length: 4.3mm; Width: 4.3mm; Height: 3mm; DC Resistance Max: 4mΩ; Inductance: 0.33μH; Performance Rated Current: 19.4A
footprint WE-XHMI_4030
simulation model 4030_744393240033_0.33u
pins: 1, 2

## 744393240047
designator L?, comment 0.47μH
WE-XHMI SMT Power Inductor, size 4030, 0.47μH, 17.1A, 4.5mΩ; Manufacturer Part Number: 744393240047; Manufacturer: Wurth Elektronik; Case/Size Code: 4030; DC Resistance: 3.9mΩ; Saturation Current @ 30%: 19.2A; Self Resonant Frequency: 105MHz; Category: Power Inductors; Match Code: WE-XHMI; ComponentLink1Description: Website Link; ComponentLink1URL: https://www.we-online.com/redexpert/article/744393240047?ad; ComponentLink2Description: Datasheet Link; ComponentLink2URL: https://www.we-online.com/redexpert/spec/744393240047?ad; Mount: Surface Mount; Min Operating Temperature: -40°C; Max Operating Temperature: 125°C; Packaging: Tape and Reel; Length: 4.3mm; Width: 4.3mm; Height: 3mm; DC Resistance Max: 4.5mΩ; Inductance: 0.47μH; Performance Rated Current: 17.1A
footprint WE-XHMI_4030
simulation model 4030_744393240047_0.47u
pins: 1, 2

## 744393240056
designator L?, comment 0.56μH
WE-XHMI SMT Power Inductor, size 4030, 0.56μH, 16.4A, 5.63mΩ; Manufacturer Part Number: 744393240056; Manufacturer: Wurth Elektronik; Case/Size Code: 4030; DC Resistance: 4.1mΩ; Saturation Current @ 30%: 17A; Self Resonant Frequency: 90MHz; Category: Power Inductors; Match Code: WE-XHMI; ComponentLink1Description: Website Link; ComponentLink1URL: https://www.we-online.com/redexpert/article/744393240056?ad; ComponentLink2Description: Datasheet Link; ComponentLink2URL: https://www.we-online.com/redexpert/spec/744393240056?ad; Mount: Surface Mount; Min Operating Temperature: -40°C; Max Operating Temperature: 125°C; Packaging: Tape and Reel; Length: 4.3mm; Width: 4.3mm; Height: 3mm; DC Resistance Max: 5.63mΩ; Inductance: 0.56μH; Performance Rated Current: 16.4A
footprint WE-XHMI_4030
simulation model 4030_744393240056_0.56u
pins: 1, 2

## 744393240064
designator L?, comment 0.64μH
WE-XHMI SMT Power Inductor, size 4030, 0.64μH, 15.2A, 5.81mΩ; Manufacturer Part Number: 744393240064; Manufacturer: Wurth Elektronik; Case/Size Code: 4030; DC Resistance: 4.8mΩ; Saturation Current @ 30%: 17A; Self Resonant Frequency: 90MHz; Category: Power Inductors; Match Code: WE-XHMI; ComponentLink1Description: Website Link; ComponentLink1URL: https://www.we-online.com/redexpert/article/744393240064?ad; ComponentLink2Description: Datasheet Link; ComponentLink2URL: https://www.we-online.com/redexpert/spec/744393240064?ad; Mount: Surface Mount; Min Operating Temperature: -40°C; Max Operating Temperature: 125°C; Packaging: Tape and Reel; Length: 4.3mm; Width: 4.3mm; Height: 3mm; DC Resistance Max: 5.81mΩ; Inductance: 0.64μH; Performance Rated Current: 15.2A
footprint WE-XHMI_4030
simulation model 4030_744393240064_0.64u
pins: 1, 2

## 744393240090
designator L?, comment 0.9μH
WE-XHMI SMT Power Inductor, size 4030, 0.9μH, 14A, 8.5mΩ; Manufacturer Part Number: 744393240090; Manufacturer: Wurth Elektronik; Case/Size Code: 4030; DC Resistance: 6.1mΩ; Saturation Current @ 30%: 15.6A; Self Resonant Frequency: 60MHz; Category: Power Inductors; Match Code: WE-XHMI; ComponentLink1Description: Website Link; ComponentLink1URL: https://www.we-online.com/redexpert/article/744393240090?ad; ComponentLink2Description: Datasheet Link; ComponentLink2URL: https://www.we-online.com/redexpert/spec/744393240090?ad; Mount: Surface Mount; Min Operating Temperature: -40°C; Max Operating Temperature: 125°C; Packaging: Tape and Reel; Length: 4.3mm; Width: 4.3mm; Height: 3mm; DC Resistance Max: 8.5mΩ; Inductance: 0.9μH; Performance Rated Current: 14A
footprint WE-XHMI_4030
simulation model 4030_744393240090_0.90u
pins: 1, 2

## 744393305033
designator L?, comment 3.3μH
WE-XHMI SMT Power Inductor, size 5050, 3.3μH, 9.2A, 16.6mΩ; Manufacturer Part Number: 744393305033; Manufacturer: Wurth Elektronik; Case/Size Code: 5050; DC Resistance: 13.2mΩ; Saturation Current @ 30%: 12.3A; Self Resonant Frequency: 26MHz; Category: Power Inductors; Match Code: WE-XHMI; ComponentLink1Description: Website Link; ComponentLink1URL: https://www.we-online.com/redexpert/article/744393305033?ad; ComponentLink2Description: Datasheet Link; ComponentLink2URL: https://www.we-online.com/redexpert/spec/744393305033?ad; Mount: Surface Mount; Min Operating Temperature: -40°C; Max Operating Temperature: 125°C; Packaging: Tape and Reel; Length: 5.55mm; Width: 5.35mm; Height: 5.1mm; DC Resistance Max: 16.6mΩ; Inductance: 3.3μH; Performance Rated Current: 9.2A
footprint WE-XHMI_5050
simulation model 5050_744393305033_3.3u
pins: 1, 2

## 744393305056
designator L?, comment 5.6μH
WE-XHMI SMT Power Inductor, size 5050, 5.6μH, 6.7A, 25.44mΩ; Manufacturer Part Number: 744393305056; Manufacturer: Wurth Elektronik; Case/Size Code: 5050; DC Resistance: 21.8mΩ; Saturation Current @ 30%: 9.7A; Self Resonant Frequency: 21MHz; Category: Power Inductors; Match Code: WE-XHMI; ComponentLink1Description: Website Link; ComponentLink1URL: https://www.we-online.com/redexpert/article/744393305056?ad; ComponentLink2Description: Datasheet Link; ComponentLink2URL: https://www.we-online.com/redexpert/spec/744393305056?ad; Mount: Surface Mount; Min Operating Temperature: -40°C; Max Operating Temperature: 125°C; Packaging: Tape and Reel; Length: 5.55mm; Width: 5.35mm; Height: 5.1mm; DC Resistance Max: 25.44mΩ; Inductance: 5.6μH; Performance Rated Current: 6.7A
footprint WE-XHMI_5050
simulation model 5050_744393305056_5.6u
pins: 1, 2

## 744393305068
designator L?, comment 6.8μH
WE-XHMI SMT Power Inductor, size 5050, 6.8μH, 6.6A, 29.28mΩ; Manufacturer Part Number: 744393305068; Manufacturer: Wurth Elektronik; Case/Size Code: 5050; DC Resistance: 23.7mΩ; Saturation Current @ 30%: 6.9A; Self Resonant Frequency: 18MHz; Category: Power Inductors; Match Code: WE-XHMI; ComponentLink1Description: Website Link; ComponentLink1URL: https://www.we-online.com/redexpert/article/744393305068?ad; ComponentLink2Description: Datasheet Link; ComponentLink2URL: https://www.we-online.com/redexpert/spec/744393305068?ad; Mount: Surface Mount; Min Operating Temperature: -40°C; Max Operating Temperature: 125°C; Packaging: Tape and Reel; Length: 5.55mm; Width: 5.35mm; Height: 5.1mm; DC Resistance Max: 29.28mΩ; Inductance: 6.8μH; Performance Rated Current: 6.6A
footprint WE-XHMI_5050
simulation model 5050_744393305068_6.8u
pins: 1, 2

## 744393305082
designator L?, comment 8.2μH
WE-XHMI SMT Power Inductor, size 5050, 8.2μH, 5.9A, 34.68mΩ; Manufacturer Part Number: 744393305082; Manufacturer: Wurth Elektronik; Case/Size Code: 5050; DC Resistance: 29.3mΩ; Saturation Current @ 30%: 6.2A; Self Resonant Frequency: 16MHz; Category: Power Inductors; Match Code: WE-XHMI; ComponentLink1Description: Website Link; ComponentLink1URL: https://www.we-online.com/redexpert/article/744393305082?ad; ComponentLink2Description: Datasheet Link; ComponentLink2URL: https://www.we-online.com/redexpert/spec/744393305082?ad; Mount: Surface Mount; Min Operating Temperature: -40°C; Max Operating Temperature: 125°C; Packaging: Tape and Reel; Length: 5.55mm; Width: 5.35mm; Height: 5.1mm; DC Resistance Max: 34.68mΩ; Inductance: 8.2μH; Performance Rated Current: 5.9A
footprint WE-XHMI_5050
simulation model 5050_744393305082_8.2u
pins: 1, 2

## 744393305100
designator L?, comment 10μH
WE-XHMI SMT Power Inductor, size 5050, 10μH, 5A, 43.08mΩ; Manufacturer Part Number: 744393305100; Manufacturer: Wurth Elektronik; Case/Size Code: 5050; DC Resistance: 35.4mΩ; Saturation Current @ 30%: 6A; Self Resonant Frequency: 14MHz; Category: Power Inductors; Match Code: WE-XHMI; ComponentLink1Description: Website Link; ComponentLink1URL: https://www.we-online.com/redexpert/article/744393305100?ad; ComponentLink2Description: Datasheet Link; ComponentLink2URL: https://www.we-online.com/redexpert/spec/744393305100?ad; Mount: Surface Mount; Min Operating Temperature: -40°C; Max Operating Temperature: 125°C; Packaging: Tape and Reel; Length: 5.55mm; Width: 5.35mm; Height: 5.1mm; DC Resistance Max: 43.08mΩ; Inductance: 10μH; Performance Rated Current: 5A
footprint WE-XHMI_5050
simulation model 5050_744393305100_10u
pins: 1, 2

## 744393305150
designator L?, comment 15μH
WE-XHMI SMT Power Inductor, size 5050, 15μH, 4A, 70.8mΩ; Manufacturer Part Number: 744393305150; Manufacturer: Wurth Elektronik; Case/Size Code: 5050; DC Resistance: 56.8mΩ; Saturation Current @ 30%: 4.9A; Self Resonant Frequency: 12MHz; Category: Power Inductors; Match Code: WE-XHMI; ComponentLink1Description: Website Link; ComponentLink1URL: https://www.we-online.com/redexpert/article/744393305150?ad; ComponentLink2Description: Datasheet Link; ComponentLink2URL: https://www.we-online.com/redexpert/spec/744393305150?ad; Mount: Surface Mount; Min Operating Temperature: -40°C; Max Operating Temperature: 125°C; Packaging: Tape and Reel; Length: 5.55mm; Width: 5.35mm; Height: 5.1mm; DC Resistance Max: 70.8mΩ; Inductance: 15μH; Performance Rated Current: 4A
footprint WE-XHMI_5050
simulation model 5050_744393305150_15u
pins: 1, 2

## 744393305220
designator L?, comment 22μH
WE-XHMI SMT Power Inductor, size 5050, 22μH, 3.5A, 90mΩ; Manufacturer Part Number: 744393305220; Manufacturer: Wurth Elektronik; Case/Size Code: 5050; DC Resistance: 75mΩ; Saturation Current @ 30%: 4A; Self Resonant Frequency: 10MHz; Category: Power Inductors; Match Code: WE-XHMI; ComponentLink1Description: Website Link; ComponentLink1URL: https://www.we-online.com/redexpert/article/744393305220?ad; ComponentLink2Description: Datasheet Link; ComponentLink2URL: https://www.we-online.com/redexpert/spec/744393305220?ad; Mount: Surface Mount; Min Operating Temperature: -40°C; Max Operating Temperature: 125°C; Packaging: Tape and Reel; Length: 5.55mm; Width: 5.35mm; Height: 5.1mm; DC Resistance Max: 90mΩ; Inductance: 22μH; Performance Rated Current: 3.5A
footprint WE-XHMI_5050
simulation model 5050_744393305220_22u
pins: 1, 2

## 744393330016
designator L?, comment 0.16μH
WE-XHMI SMT Power Inductor, size 5020, 0.16μH, 24.7A, 3.13mΩ; Manufacturer Part Number: 744393330016; Manufacturer: Wurth Elektronik; Case/Size Code: 5020; DC Resistance: 2.2mΩ; Saturation Current @ 30%: 41.5A; Self Resonant Frequency: 190MHz; Category: Power Inductors; Match Code: WE-XHMI; ComponentLink1Description: Website Link; ComponentLink1URL: https://www.we-online.com/redexpert/article/744393330016?ad; ComponentLink2Description: Datasheet Link; ComponentLink2URL: https://www.we-online.com/redexpert/spec/744393330016?ad; Mount: Surface Mount; Min Operating Temperature: -40°C; Max Operating Temperature: 125°C; Packaging: Tape and Reel; Length: 5.55mm; Width: 5.35mm; Height: 2mm; DC Resistance Max: 3.13mΩ; Inductance: 0.16μH; Performance Rated Current: 24.7A
footprint WE-XHMI_5020
simulation model 5020_744393330016_0.16u
pins: 1, 2

## 744393330033
designator L?, comment 0.33μH
WE-XHMI SMT Power Inductor, size 5020, 0.33μH, 20.8A, 4.25mΩ; Manufacturer Part Number: 744393330033; Manufacturer: Wurth Elektronik; Case/Size Code: 5020; DC Resistance: 3mΩ; Saturation Current @ 30%: 27A; Self Resonant Frequency: 105MHz; Category: Power Inductors; Match Code: WE-XHMI; ComponentLink1Description: Website Link; ComponentLink1URL: https://www.we-online.com/redexpert/article/744393330033?ad; ComponentLink2Description: Datasheet Link; ComponentLink2URL: https://www.we-online.com/redexpert/spec/744393330033?ad; Mount: Surface Mount; Min Operating Temperature: -40°C; Max Operating Temperature: 125°C; Packaging: Tape and Reel; Length: 5.55mm; Width: 5.35mm; Height: 2mm; DC Resistance Max: 4.25mΩ; Inductance: 0.33μH; Performance Rated Current: 20.8A
footprint WE-XHMI_5020
simulation model 5020_744393330033_0.33u
pins: 1, 2

## 744393330056
designator L?, comment 0.56μH
WE-XHMI SMT Power Inductor, size 5020, 0.56μH, 15.4A, 8mΩ; Manufacturer Part Number: 744393330056; Manufacturer: Wurth Elektronik; Case/Size Code: 5020; DC Resistance: 5.2mΩ; Saturation Current @ 30%: 21.6A; Self Resonant Frequency: 90MHz; Category: Power Inductors; Match Code: WE-XHMI; ComponentLink1Description: Website Link; ComponentLink1URL: https://www.we-online.com/redexpert/article/744393330056?ad; ComponentLink2Description: Datasheet Link; ComponentLink2URL: https://www.we-online.com/redexpert/spec/744393330056?ad; Mount: Surface Mount; Min Operating Temperature: -40°C; Max Operating Temperature: 125°C; Packaging: Tape and Reel; Length: 5.55mm; Width: 5.35mm; Height: 2mm; DC Resistance Max: 8mΩ; Inductance: 0.56μH; Performance Rated Current: 15.4A
footprint WE-XHMI_5020
simulation model 5020_744393330056_0.56u
pins: 1, 2

## 744393330068
designator L?, comment 0.68μH
WE-XHMI SMT Power Inductor, size 5020, 0.68μH, 13.3A, 9.38mΩ; Manufacturer Part Number: 744393330068; Manufacturer: Wurth Elektronik; Case/Size Code: 5020; DC Resistance: 6.7mΩ; Saturation Current @ 30%: 17.2A; Self Resonant Frequency: 75MHz; Category: Power Inductors; Match Code: WE-XHMI; ComponentLink1Description: Website Link; ComponentLink1URL: https://www.we-online.com/redexpert/article/744393330068?ad; ComponentLink2Description: Datasheet Link; ComponentLink2URL: https://www.we-online.com/redexpert/spec/744393330068?ad; Mount: Surface Mount; Min Operating Temperature: -40°C; Max Operating Temperature: 125°C; Packaging: Tape and Reel; Length: 5.55mm; Width: 5.35mm; Height: 2mm; DC Resistance Max: 9.38mΩ; Inductance: 0.68μH; Performance Rated Current: 13.3A
footprint WE-XHMI_5020
simulation model 5020_744393330068_0.68u
pins: 1, 2

## 744393340016
designator L?, comment 0.16μH
WE-XHMI SMT Power Inductor, size 5030, 0.16μH, 24.2A, 2.75mΩ; Manufacturer Part Number: 744393340016; Manufacturer: Wurth Elektronik; Case/Size Code: 5030; DC Resistance: 2.1mΩ; Saturation Current @ 30%: 39.9A; Self Resonant Frequency: 195MHz; Category: Power Inductors; Match Code: WE-XHMI; ComponentLink1Description: Website Link; ComponentLink1URL: https://www.we-online.com/redexpert/article/744393340016?ad; ComponentLink2Description: Datasheet Link; ComponentLink2URL: https://www.we-online.com/redexpert/spec/744393340016?ad; Mount: Surface Mount; Min Operating Temperature: -40°C; Max Operating Temperature: 125°C; Packaging: Tape and Reel; Length: 5.55mm; Width: 5.35mm; Height: 3mm; DC Resistance Max: 2.75mΩ; Inductance: 0.16μH; Performance Rated Current: 24.2A
footprint WE-XHMI_5030
simulation model 5030_744393340016_0.16u
pins: 1, 2

## 744393340033
designator L?, comment 0.33μH
WE-XHMI SMT Power Inductor, size 5030, 0.33μH, 21.2A, 3.88mΩ; Manufacturer Part Number: 744393340033; Manufacturer: Wurth Elektronik; Case/Size Code: 5030; DC Resistance: 3.01mΩ; Saturation Current @ 30%: 33.3A; Self Resonant Frequency: 105MHz; Category: Power Inductors; Match Code: WE-XHMI; ComponentLink1Description: Website Link; ComponentLink1URL: https://www.we-online.com/redexpert/article/744393340033?ad; ComponentLink2Description: Datasheet Link; ComponentLink2URL: https://www.we-online.com/redexpert/spec/744393340033?ad; Mount: Surface Mount; Min Operating Temperature: -40°C; Max Operating Temperature: 125°C; Packaging: Tape and Reel; Length: 5.55mm; Width: 5.35mm; Height: 3mm; DC Resistance Max: 3.88mΩ; Inductance: 0.33μH; Performance Rated Current: 21.2A
footprint WE-XHMI_5030
simulation model 5030_744393340033_0.33u
pins: 1, 2

## 744393340056
designator L?, comment 0.56μH
WE-XHMI SMT Power Inductor, size 5030, 0.56μH, 18.3A, 4.81mΩ; Manufacturer Part Number: 744393340056; Manufacturer: Wurth Elektronik; Case/Size Code: 5030; DC Resistance: 3.99mΩ; Saturation Current @ 30%: 24.4A; Self Resonant Frequency: 75MHz; Category: Power Inductors; Match Code: WE-XHMI; ComponentLink1Description: Website Link; ComponentLink1URL: https://www.we-online.com/redexpert/article/744393340056?ad; ComponentLink2Description: Datasheet Link; ComponentLink2URL: https://www.we-online.com/redexpert/spec/744393340056?ad; Mount: Surface Mount; Min Operating Temperature: -40°C; Max Operating Temperature: 125°C; Packaging: Tape and Reel; Length: 5.55mm; Width: 5.35mm; Height: 3mm; DC Resistance Max: 4.81mΩ; Inductance: 0.56μH; Performance Rated Current: 18.3A
footprint WE-XHMI_5030
simulation model 5030_744393340056_0.56u
pins: 1, 2

## 744393340068
designator L?, comment 0.68μH
WE-XHMI SMT Power Inductor, size 5030, 0.68μH, 15.7A, 4.88mΩ; Manufacturer Part Number: 744393340068; Manufacturer: Wurth Elektronik; Case/Size Code: 5030; DC Resistance: 4.09mΩ; Saturation Current @ 30%: 17.7A; Self Resonant Frequency: 62MHz; Category: Power Inductors; Match Code: WE-XHMI; ComponentLink1Description: Website Link; ComponentLink1URL: https://www.we-online.com/redexpert/article/744393340068?ad; ComponentLink2Description: Datasheet Link; ComponentLink2URL: https://www.we-online.com/redexpert/spec/744393340068?ad; Mount: Surface Mount; Min Operating Temperature: -40°C; Max Operating Temperature: 125°C; Packaging: Tape and Reel; Length: 5.55mm; Width: 5.35mm; Height: 3mm; DC Resistance Max: 4.88mΩ; Inductance: 0.68μH; Performance Rated Current: 15.7A
footprint WE-XHMI_5030
simulation model 5030_744393340068_0.68u
pins: 1, 2

## 744393440015
designator L?, comment 0.15μH
WE-XHMI SMT Power Inductor, size 6030, 0.15μH, 37A, 1.49mΩ; Manufacturer Part Number: 744393440015; Manufacturer: Wurth Elektronik; Case/Size Code: 6030; DC Resistance: 1.24mΩ; Saturation Current @ 30%: 56A; Self Resonant Frequency: 191MHz; Category: Power Inductors; Match Code: WE-XHMI; ComponentLink1Description: Website Link; ComponentLink1URL: https://www.we-online.com/redexpert/article/744393440015?ad; ComponentLink2Description: Datasheet Link; ComponentLink2URL: https://www.we-online.com/redexpert/spec/744393440015?ad; Mount: Surface Mount; Min Operating Temperature: -40°C; Max Operating Temperature: 125°C; Packaging: Tape and Reel; Length: 6.65mm; Width: 6.45mm; Height: 3mm; DC Resistance Max: 1.49mΩ; Inductance: 0.15μH; Performance Rated Current: 37A
footprint WE-XHMI_6030
simulation model 6030_744393440015_0.15u
pins: 1, 2

## 744393440018
designator L?, comment 0.18μH
WE-XHMI SMT Power Inductor, size 6030, 0.18μH, 35.65A, 1.45mΩ; Manufacturer Part Number: 744393440018; Manufacturer: Wurth Elektronik; Case/Size Code: 6030; DC Resistance: 1.32mΩ; Saturation Current @ 30%: 50.6A; Self Resonant Frequency: 169MHz; Category: Power Inductors; Match Code: WE-XHMI; ComponentLink1Description: Website Link; ComponentLink1URL: https://www.we-online.com/redexpert/article/744393440018?ad; ComponentLink2Description: Datasheet Link; ComponentLink2URL: https://www.we-online.com/redexpert/spec/744393440018?ad; Mount: Surface Mount; Min Operating Temperature: -40°C; Max Operating Temperature: 125°C; Packaging: Tape and Reel; Length: 6.65mm; Width: 6.45mm; Height: 3mm; DC Resistance Max: 1.45mΩ; Inductance: 0.18μH; Performance Rated Current: 35.65A
footprint WE-XHMI_6030
simulation model 6030_744393440018_0.18u
pins: 1, 2

## 744393440033
designator L?, comment 0.33μH
WE-XHMI SMT Power Inductor, size 6030, 0.33μH, 27.35A, 2.31mΩ; Manufacturer Part Number: 744393440033; Manufacturer: Wurth Elektronik; Case/Size Code: 6030; DC Resistance: 2.1mΩ; Saturation Current @ 30%: 42.9A; Self Resonant Frequency: 113MHz; Category: Power Inductors; Match Code: WE-XHMI; ComponentLink1Description: Website Link; ComponentLink1URL: https://www.we-online.com/redexpert/article/744393440033?ad; ComponentLink2Description: Datasheet Link; ComponentLink2URL: https://www.we-online.com/redexpert/spec/744393440033?ad; Mount: Surface Mount; Min Operating Temperature: -40°C; Max Operating Temperature: 125°C; Packaging: Tape and Reel; Length: 6.65mm; Width: 6.45mm; Height: 3mm; DC Resistance Max: 2.31mΩ; Inductance: 0.33μH; Performance Rated Current: 27.35A
footprint WE-XHMI_6030
simulation model 6030_744393440033_0.33u
pins: 1, 2